# Altium footprint library PCB_Connector.PcbLib: 19 footprints (part 2 of 2)
Each footprint in its own frame and in the unit in brackets; x right, y up, seen from the top. Pads: shape width x height; smd on the part's side, far side on the other; paste and mask are expansions set on the pad; w line width, h text height; cw(c..) or ccw(c..) is an arc to the next point about the centre after c.
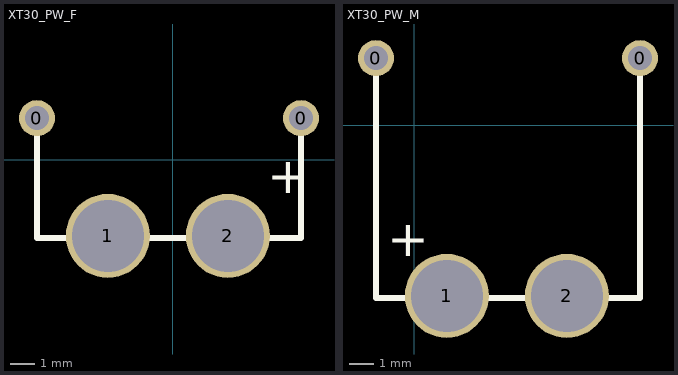
[diagram p1: the footprints below, top view; thin cyan lines are the x and y axes]

## XT30_PW_F [mm]
pads (4):
  round 1.5 hole 1: 0(-5.666,1.731) 0(5.334,1.731)
  round 3.5 hole 3: 1(-2.714,-3.175) 2(2.286,-3.175)
Top Overlay:
  lines w0.254: -5.666,1.731 -5.666,-3.269 5.334,-3.269 5.334,1.731
  text "+" at 3.937,-1.397 h1.52

## XT30_PW_M [mm]
pads (4):
  round 1.5 hole 1: 0(-1.602,2.794) 0(9.398,2.794)
  round 3.5 hole 3: 1(1.35,-7.112) 2(6.35,-7.112)
Top Overlay:
  lines w0.254: -1.602,2.794 -1.602,-7.206 9.398,-7.206 9.398,2.794
  text "+" at -1.143,-5.461 h1.52
3D body "User Library-XT30- curved.STEP": height 5, standoff -2.1, extent -2.713,-8.12 10.587,6.886

## ZBUF_3DMODEL [mil]
3D body "47641.stp": height 98.43, standoff -23.62, extent 153.35,-345 446.65,-81.22
3D body "47659.stp": height 98.43, standoff -23.62, extent -129.29,-18.78 459.29,245
3D body "47631.stp": height 98.43, standoff -23.62, extent -206.62,320.19 480.39,583.97